# Altium footprint library libUSBConn.PcbLib: 3 footprints
Each footprint in its own frame and in the unit in brackets; x right, y up, seen from the top. Pads: shape width x height; smd on the part's side, far side on the other; paste and mask are expansions set on the pad; w line width, h text height; cw(c..) or ccw(c..) is an arc to the next point about the centre after c.
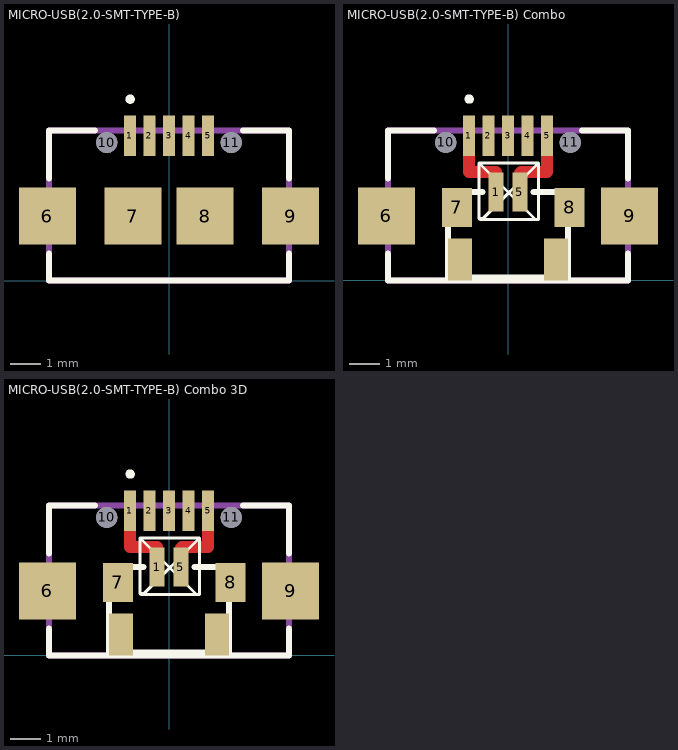
[diagram p0: the footprints below, top view; thin cyan lines are the x and y axes]

## MICRO-USB(2.0-SMT-TYPE-B) [mm]
pads (11):
  rect 0.4x1.35 smd: 1(-1.3,4.825) 2(-0.65,4.825) 3(0,4.825) 4(0.65,4.825) 5(1.3,4.825)
  rect 1.9x1.9 smd: 6(-4.05,2.15) 7(-1.2,2.15) 8(1.2,2.15) 9(4.05,2.15)
  round 0.7 hole 0.7: 10(-2.075,4.6) 11(2.075,4.6)
Top Overlay:
  circle w0.2: c-1.295,6.047 r0.056
  lines w0.2: -4,0.9 -4,0 4,0 4,0.9 ; -4,3.403 -4,5 -2.459,5 ; 2.459,5 4,5 4,3.403
Mechanical 13:
  lines w0.2: -4,0 4,0 4,5 -4,5 -4,0

## MICRO-USB(2.0-SMT-TYPE-B) Combo [mm]
pads (15):
  rect 0.4x1.35 smd: 1(-1.3,4.825) 2(-0.65,4.825) 3(0,4.825) 4(0.65,4.825) 5(1.3,4.825)
  rect 0.5x1.3 smd: 1(-0.4,2.944) 5(0.4,2.944)
  rect 1.9x1.9 smd: 6(-4.05,2.15) 9(4.05,2.15)
  rect 1x1.3 smd: 7(-1.702,2.438) 8(2.057,2.438)
  round 0.7 hole 0.7: 10(-2.075,4.6) 11(2.075,4.6)
  rect 0.8x1.4 smd: ""(-1.6,0.694) ""(1.6,0.694)
Top Layer:
  lines w0.4: -1.3,4.825 -1.3,3.607 -0.4,3.607 -0.4,3.353 ; 0.4,3.353 0.4,3.575 0.432,3.607 1.3,3.607 1.3,4.825
Top Overlay:
  circle w0.2: c-1.295,6.047 r0.056
  lines w0.1: -0.965,2.057 -0.838,2.057 1.016,3.912 ; -0.965,2.057 -0.965,3.912 ; -0.965,2.057 -0.94,2.032 1.016,2.032 ; -0.965,3.912 0.914,2.032 1.016,2.032 ; -0.965,3.912 1.016,3.912 ; 1.016,2.032 1.016,3.912
  lines w0.2: -4,0.9 -4,0 4,0 4,0.9 ; -4,3.403 -4,5 -2.459,5 ; -2,0.094 -2,2.944 -0.85,2.944 ; -1.95,0.094 2,0.094 2,2.944 0.85,2.944 ; 2.459,5 4,5 4,3.403
Mechanical 13:
  lines w0.2: -4,0 -4,5 4,5 4,0 -4,0

## MICRO-USB(2.0-SMT-TYPE-B) Combo 3D [mm]
pads (15):
  rect 0.4x1.35 smd: 1(-1.3,4.825) 2(-0.65,4.825) 3(0,4.825) 4(0.65,4.825) 5(1.3,4.825)
  rect 0.5x1.3 smd: 1(-0.4,2.944) 5(0.4,2.944)
  rect 1.9x1.9 smd: 6(-4.05,2.15) 9(4.05,2.15)
  rect 1x1.3 smd: 7(-1.702,2.438) 8(2.057,2.438)
  round 0.7 hole 0.7: 10(-2.075,4.6) 11(2.075,4.6)
  rect 0.8x1.4 smd: ""(-1.6,0.694) ""(1.6,0.694)
Top Layer:
  lines w0.4: -1.3,4.825 -1.3,3.607 -0.4,3.607 -0.4,3.353 ; 0.4,3.353 0.4,3.575 0.432,3.607 1.3,3.607 1.3,4.825
Top Overlay:
  circle w0.2: c-1.295,6.047 r0.056
  lines w0.1: -0.965,2.057 -0.94,2.032 1.016,2.032 ; -0.965,2.057 -0.965,3.912 ; -0.965,2.057 -0.838,2.057 1.016,3.912 ; -0.965,3.912 1.016,3.912 ; -0.965,3.912 0.914,2.032 1.016,2.032 ; 1.016,2.032 1.016,3.912
  lines w0.2: -4,0.9 -4,0 4,0 4,0.9 ; -4,3.403 -4,5 -2.459,5 ; -2,0.094 -2,2.944 -0.85,2.944 ; -1.95,0.094 2,0.094 2,2.944 0.85,2.944 ; 2.459,5 4,5 4,3.403
Mechanical 13:
  lines w0.2: -4,0 4,0 4,5 -4,5 -4,0
3D body "629105136821_Download_STP_629105136821_rev1.stp": height 2.65, standoff -0.65, extent -4,-0.65 4,5.253